# EAGLE library part CONNECTOR-10 (library HyTechDevices)
Mini-Fit Junior connector 10 pole Source: http://www.molex.com
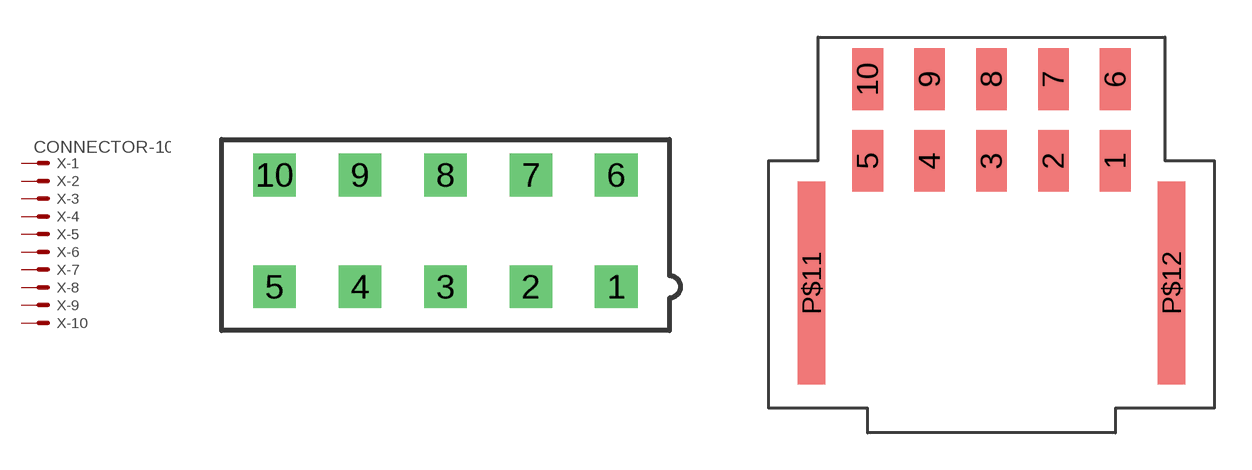
[diagram p4: symbol with the pads of 39288100; footprints 39288100, 1054051210]

Designator prefix X; gates -1=MV -2=M -3=M -4=M -5=M -6=M -7=M -8=M -9=M -10=M

## CONNECTOR-10 (OC_FARNELL: unknown; OC_NEWARK: unknown)  [39288100]
1  -1:S  pas
2  -2:S  pas
3  -3:S  pas
4  -4:S  pas
5  -5:S  pas
6  -6:S  pas
7  -7:S  pas
8  -8:S  pas
9  -9:S  pas
10  -10:S  pas

## CONNECTOR-10NANO-FIT_RIGHT_ANGLE-SURFACE  [1054051210]
Pads as for 39288100

## CONNECTOR-10NANO-FIT_VERTICAL-10  [1053101210]
P$1  -1:S  pas
P$2  -2:S  pas
P$3  -3:S  pas
P$4  -4:S  pas
P$5  -5:S  pas
P$6  -6:S  pas
P$7  -7:S  pas
P$8  -8:S  pas
P$9  -9:S  pas
P$10  -10:S  pas

## Footprint 39288100 (pad centres in mm)
Mini-Fit Junior connector 10 pole Source: http://www.molex.com
drill 1.4 square: 1 8.4,-2.75; 2 4.2,-2.75; 3 0,-2.75; 4 -4.2,-2.75; 5 -8.4,-2.75; 6 8.4,2.75; 7 4.2,2.75; 8 0,2.75; 9 -4.2,2.75; 10 -8.4,2.75

## Footprint 1054051210 (pad centres in mm)
smd 1.24 x 2.5: 1 5,0; 2 2.5,0; 3 0,0; 4 -2.5,0; 5 -5,0; 6 5,3.3; 7 2.5,3.3; 8 0,3.3; 9 -2.5,3.3; 10 -5,3.3
smd 1.1 x 8.2: P$11 -7.27,-4.93; P$12 7.27,-4.93

## Footprint 1053101210 (pad centres in mm)
drill 1.2: P$1 -5,0; P$2 -2.5,0; P$3 0,0; P$4 2.5,0; P$5 5,0; P$6 -5,2.5; P$7 -2.5,2.5; P$8 0,2.5; P$9 2.5,2.5; P$10 5,2.5
hole 1.3 at -1.27,-1.34